# EAGLE library part FT2232H-MINI (library pixel)
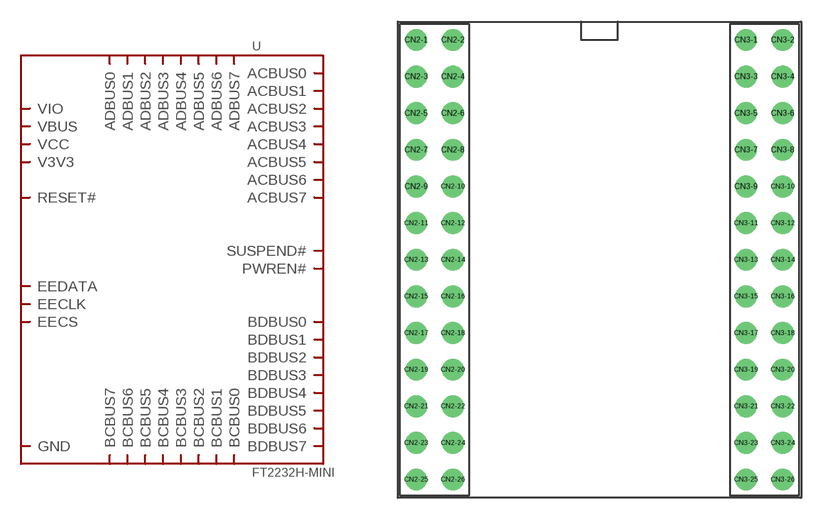
[diagram p16: symbol with the pads of FT2232H-MINI; footprint FT2232H-MINI]

Designator prefix -

## FT2232H-MINI  [FT2232H-MINI]
CN2-1  V3V3
CN2-2  GND
CN2-3  V3V3
CN2-4  GND
CN2-5  V3V3
CN2-6  GND
CN2-7  ADBUS0
CN2-8  RESET#
CN2-9  ADBUS2
CN2-10  ADBUS1
CN2-11  VIO
CN2-12  ADBUS3
CN2-13  ADBUS5
CN2-14  ADBUS4
CN2-15  ADBUS7
CN2-16  ADBUS6
CN2-17  ACBUS1
CN2-18  ACBUS0
CN2-19  ACBUS3
CN2-20  ACBUS2
CN2-21  VIO
CN2-22  ACBUS4
CN2-23  ACBUS6
CN2-24  ACBUS5
CN2-25  SUSPEND#
CN2-26  ACBUS7
CN3-1  VBUS
CN3-2  GND
CN3-3  VCC
CN3-4  GND
CN3-5  EECS
CN3-6  EECLK
CN3-7  EEDATA
CN3-8  PWREN#
CN3-9  BCBUS7
CN3-10  BCBUS6
CN3-11  BCBUS5
CN3-12  VIO
CN3-13  BCBUS4
CN3-14  BCBUS3
CN3-15  BCBUS2
CN3-16  BCBUS1
CN3-17  BCBUS0
CN3-18  BDBUS7
CN3-19  BDBUS6
CN3-20  BDBUS5
CN3-21  BDBUS4
CN3-22  VIO
CN3-23  BDBUS3
CN3-24  BDBUS2
CN3-25  BDBUS1
CN3-26  BDBUS0

## Footprint FT2232H-MINI (pad centres in mm)
drill 1: CN2-1 -12.7,15.24; CN2-2 -10.16,15.24; CN2-3 -12.7,12.7; CN2-4 -10.16,12.7; CN2-5 -12.7,10.16; CN2-6 -10.16,10.16; CN2-7 -12.7,7.62; CN2-8 -10.16,7.62; CN2-9 -12.7,5.08; CN2-10 -10.16,5.08; CN2-11 -12.7,2.54; CN2-12 -10.16,2.54; CN2-13 -12.7,0; CN2-14 -10.16,0; CN2-15 -12.7,-2.54; CN2-16 -10.16,-2.54; CN2-17 -12.7,-5.08; CN2-18 -10.16,-5.08; CN2-19 -12.7,-7.62; CN2-20 -10.16,-7.62; CN2-21 -12.7,-10.16; CN2-22 -10.16,-10.16; CN2-23 -12.7,-12.7; CN2-24 -10.16,-12.7; CN2-25 -12.7,-15.24; CN2-26 -10.16,-15.24; CN3-1 10.16,15.24; CN3-2 12.7,15.24; CN3-3 10.16,12.7; CN3-4 12.7,12.7; CN3-5 10.16,10.16; CN3-6 12.7,10.16; CN3-7 10.16,7.62; CN3-8 12.7,7.62; CN3-9 10.16,5.08; CN3-10 12.7,5.08; CN3-11 10.16,2.54; CN3-12 12.7,2.54; CN3-13 10.16,0; CN3-14 12.7,0; CN3-15 10.16,-2.54; CN3-16 12.7,-2.54; CN3-17 10.16,-5.08; CN3-18 12.7,-5.08; CN3-19 10.16,-7.62; CN3-20 12.7,-7.62; CN3-21 10.16,-10.16; CN3-22 12.7,-10.16; CN3-23 10.16,-12.7; CN3-24 12.7,-12.7; CN3-25 10.16,-15.24; CN3-26 12.7,-15.24